# Altium integrated library frames.IntLib: 30 symbols (part 2 of 2)

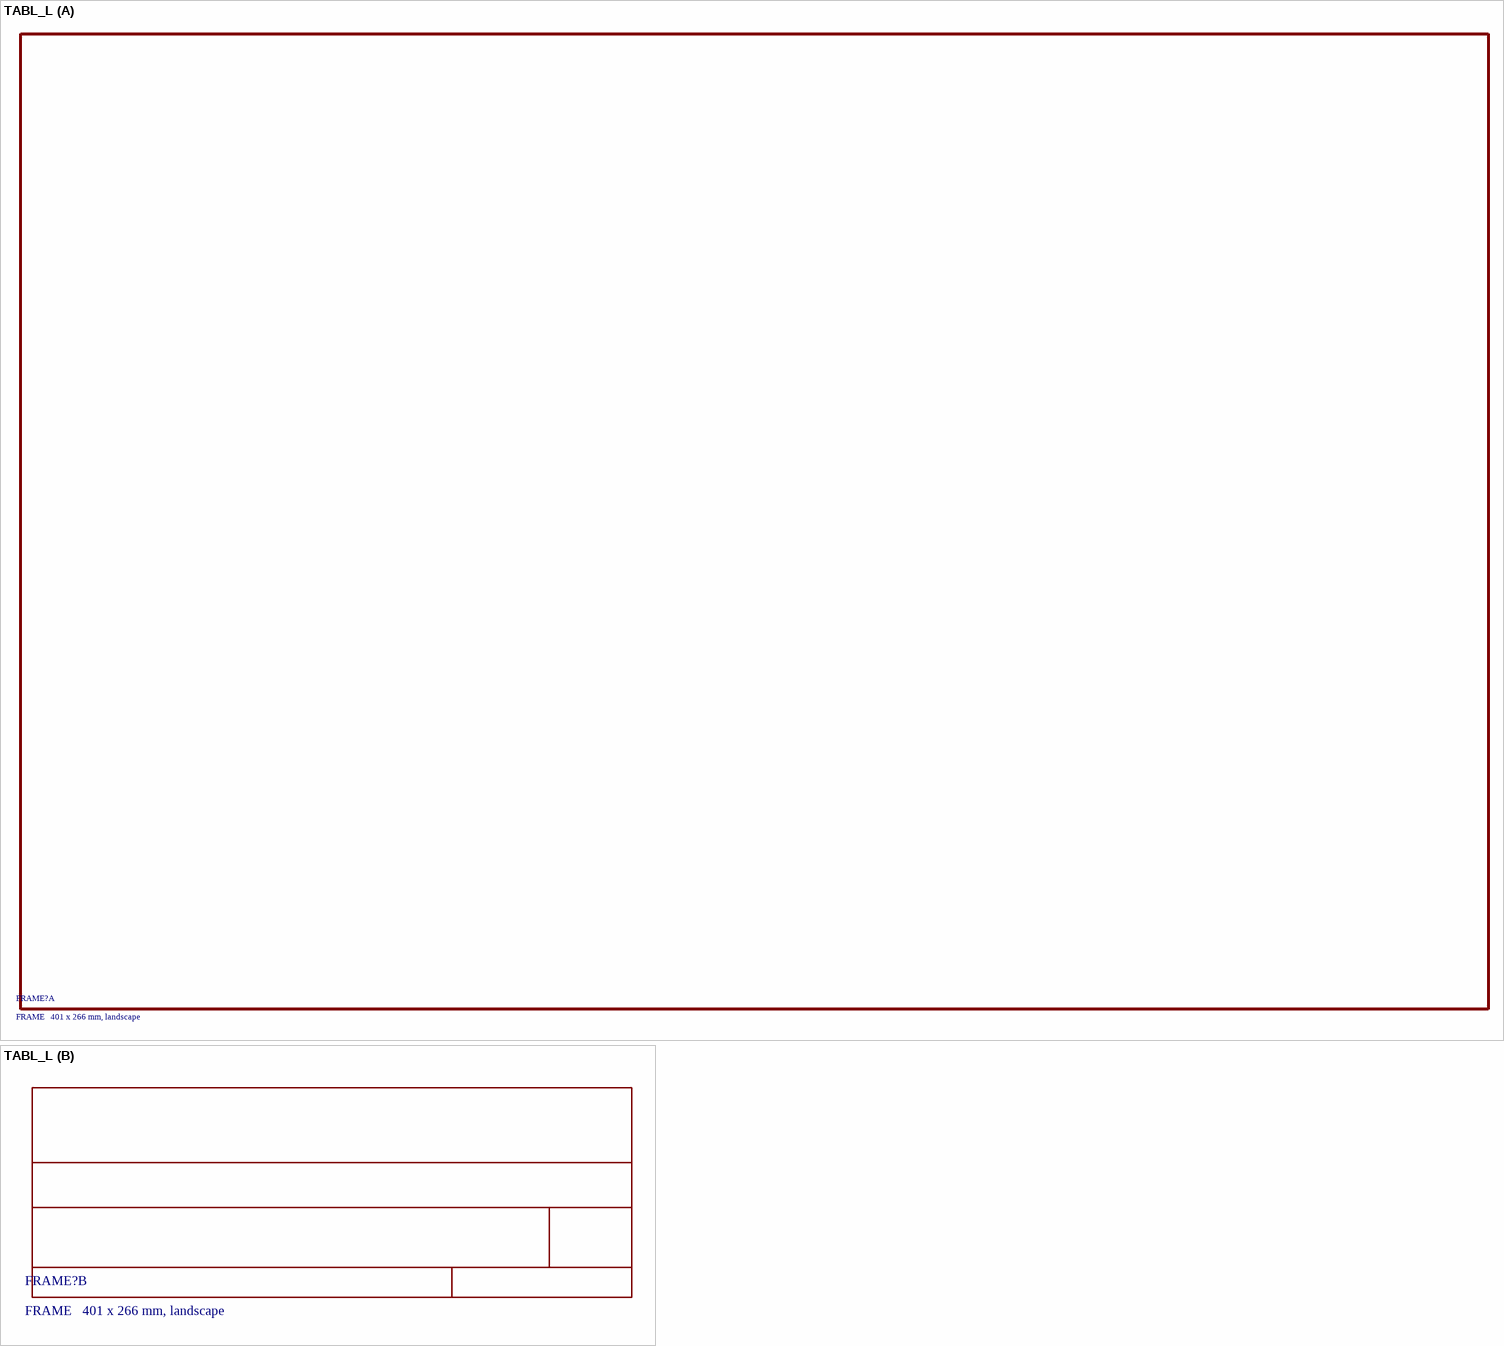
[diagram p23: symbol TABL_L]

## TABL_L
designator FRAME?, comment FRAME   401 x 266 mm, landscape

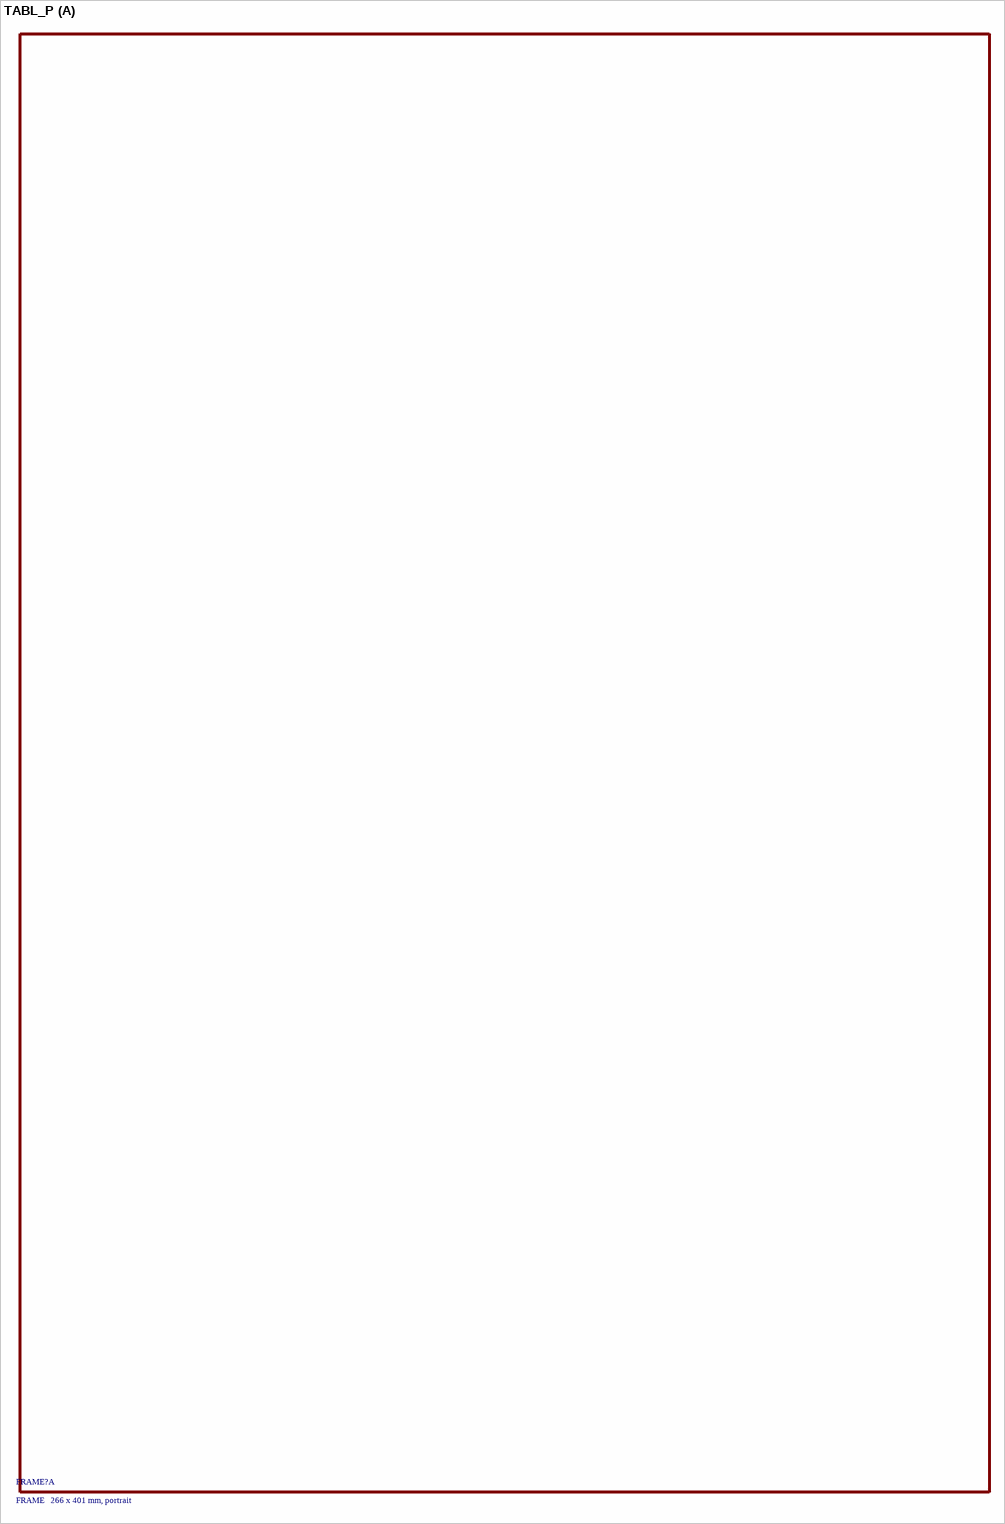
[diagram p24: symbol TABL_P]

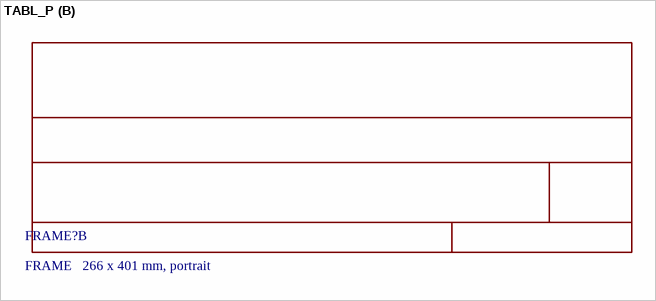
[diagram p25: symbol TABL_P]

## TABL_P
designator FRAME?, comment FRAME   266 x 401 mm, portrait